# Altium schematic symbol library GENERIC_SWITCH_SPST_NC.SchLib: 1 symbol
Pins are listed as number, name and electrical type; pins without a type are passive.

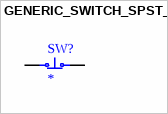
[diagram p0: symbol GENERIC_SWITCH_SPST_NC]

## GENERIC_SWITCH_SPST_NC
designator SW?
pins: 1, 2